# EAGLE library part ATSAMD11C14A-SSNT (library Badge_v202004081200_Eagle_Library_regex)
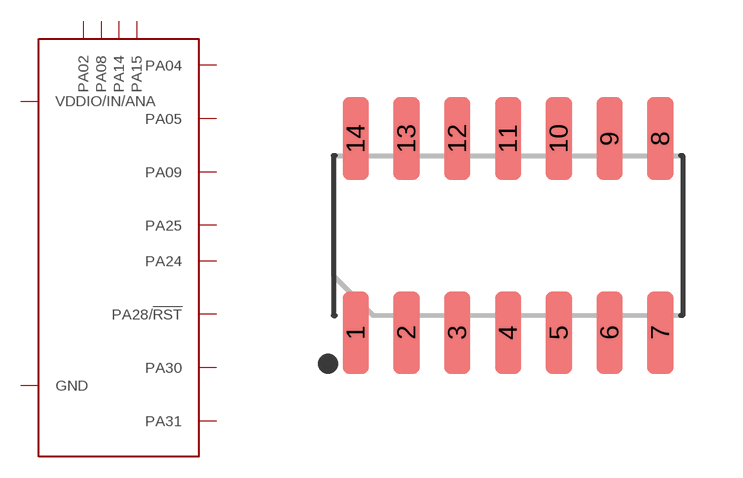
[diagram p4: symbol with the pads of SOIC14P127_864X599X174L83X41N; footprint SOIC14P127_864X599X174L83X41N]

Designator prefix U

## ATSAMD11C14A-SSNT (DATASHEET: http://datasheets.diptrace.com/atmel/SAMD11.pdf; MANUFACTURER: Atmel)  [SOIC14P127_864X599X174L83X41N]
1  PA05
2  PA08
3  PA09
4  PA14
5  PA15
6  PA28/!RST!
7  PA30
8  PA31
9  PA24
10  PA25
11  GND  pwr
12  VDDIO/IN/ANA  pwr
13  PA02
14  PA04

## Footprint SOIC14P127_864X599X174L83X41N (pad centres in mm)
smd 0.66 x 2.07: 1 -3.81,-2.425; 2 -2.54,-2.425; 3 -1.27,-2.425; 4 0,-2.425; 5 1.27,-2.425; 6 2.54,-2.425; 7 3.81,-2.425; 8 3.81,2.425; 9 2.54,2.425; 10 1.27,2.425; 11 0,2.425; 12 -1.27,2.425; 13 -2.54,2.425; 14 -3.81,2.425